# Altium schematic symbol library D-SUB-25POS.SchLib: 1 symbol
Pins are listed as number, name and electrical type; pins without a type are passive.

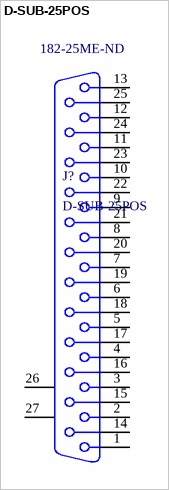
[diagram p0: symbol D-SUB-25POS]

## D-SUB-25POS
designator J?  Supplier Part Number 1: 182-25ME-ND
CONN D-SUB PLUG 25POS R/A SOLDER; ComponentLink1Description: Datasheet; ComponentLink1URL: https://www.norcomp.net/rohspdfs/Connectors/18Y/182/182-yyy-113Ryy1.pdf; Supplier 1: Digi-Key
footprint D-SUB-25POS
pins: 1, 2, 3, 4, 5, 6, 7, 8, 9, 10, 11, 12, 13, 14, 15, 16, 17, 18, 19, 20, 21, 22, 23, 24, 25, 26 MH1, 27 MH2